# Altium schematic symbol library Components.SchLib: 1 symbol
Pins are listed as number, name and electrical type; pins without a type are passive.

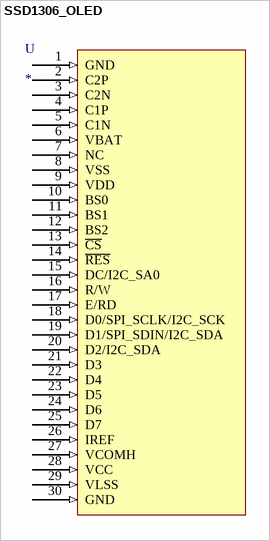
[diagram p0: symbol SSD1306_OLED]

## SSD1306_OLED
designator U
pins: 1 GND (in), 2 C2P (in), 3 C2N (in), 4 C1P (in), 5 C1N (in), 6 VBAT (in), 7 NC (in), 8 VSS (in), 9 VDD (in), 10 BS0 (in), 11 BS1 (in), 12 BS2 (in), 13 ~{CS} (in), 14 ~{RES} (in), 15 DC/I2C_SA0 (in), 16 R/W (in), 17 E/RD (in), 18 D0/SPI_SCLK/I2C_SCK (in), 19 D1/SPI_SDIN/I2C_SDA (in), 20 D2/I2C_SDA (in), 21 D3 (in), 22 D4 (in), 23 D5 (in), 24 D6 (in), 25 D7 (in), 26 IREF (in), 27 VCOMH (in), 28 VCC (in), 29 VLSS (in), 30 GND (in)